# Altium schematic symbol library USB-B(Micro).SchLib: 1 symbol
Pins are listed as number, name and electrical type; pins without a type are passive.

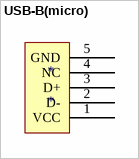
[diagram p0: symbol USB-B(micro)]

## USB-B(micro)
designator *
footprint MICRO-USB
pins: 1 VCC, 2 D-, 3 D+, 4 NC, 5 GND